# Altium footprint library CL21A475KOFNNNE_0.pcblib: 1 footprints
Each footprint in its own frame and in the unit in brackets; x right, y up, seen from the top. Pads: shape width x height; smd on the part's side, far side on the other; paste and mask are expansions set on the pad; w line width, h text height; cw(c..) or ccw(c..) is an arc to the next point about the centre after c.
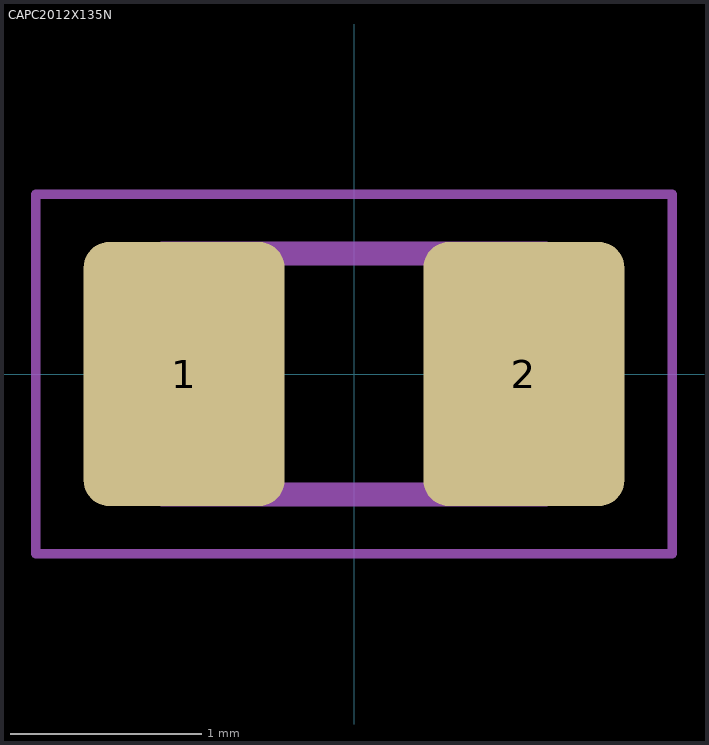
[diagram p0: the footprint, top view; thin cyan lines are the x and y axes]

## CAPC2012X135N [mm]
pads (2):
  rrect25% 1.05x1.38 smd paste+0 mask+0.102: 1(-0.888,0) 2(0.888,0)
Assembly Top:
  lines w0.127: -1,-0.63 1,-0.63 1,0.63 -1,0.63 -1,-0.63
Courtyard Top:
  lines w0.05: -1.663,-0.94 1.663,-0.94 1.663,0.94 -1.663,0.94 -1.663,-0.94
3D body "step_temp.STEP": height 1.35, standoff 0, extent -1,-0.625 1,0.625